# EAGLE library part POLOLU_DRV8833_MODULE (library arcs_library)
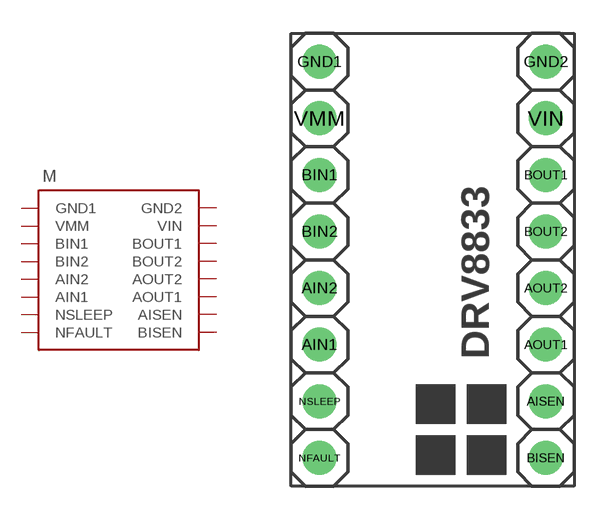
[diagram p2: symbol with the pads of POLOLU_DRV8833_MODULE; footprint POLOLU_DRV8833_MODULE]

Designator prefix M

## POLOLU_DRV8833_MODULE  [POLOLU_DRV8833_MODULE]
AIN1  AIN1
AIN2  AIN2
AISEN  AISEN
AOUT1  AOUT1
AOUT2  AOUT2
BIN1  BIN1
BIN2  BIN2
BISEN  BISEN
BOUT1  BOUT1
BOUT2  BOUT2
GND1  GND1
GND2  GND2
NFAULT  NFAULT
NSLEEP  NSLEEP
VIN  VIN
VMM  VMM

## Footprint POLOLU_DRV8833_MODULE (pad centres in mm)
drill 1.016: AIN1 1.27,6.35; AIN2 1.27,8.89; AISEN 11.43,3.81; AOUT1 11.43,6.35; AOUT2 11.43,8.89; BIN1 1.27,13.97; BIN2 1.27,11.43; BISEN 11.43,1.27; BOUT1 11.43,13.97; BOUT2 11.43,11.43; GND1 1.27,19.05; GND2 11.43,19.05; NFAULT 1.27,1.27; NSLEEP 1.27,3.81; VIN 11.43,16.51; VMM 1.27,16.51